# Altium integrated library TI Data Converters Digital to Analog Converter.IntLib: 1533 symbols (part 84 of 99)
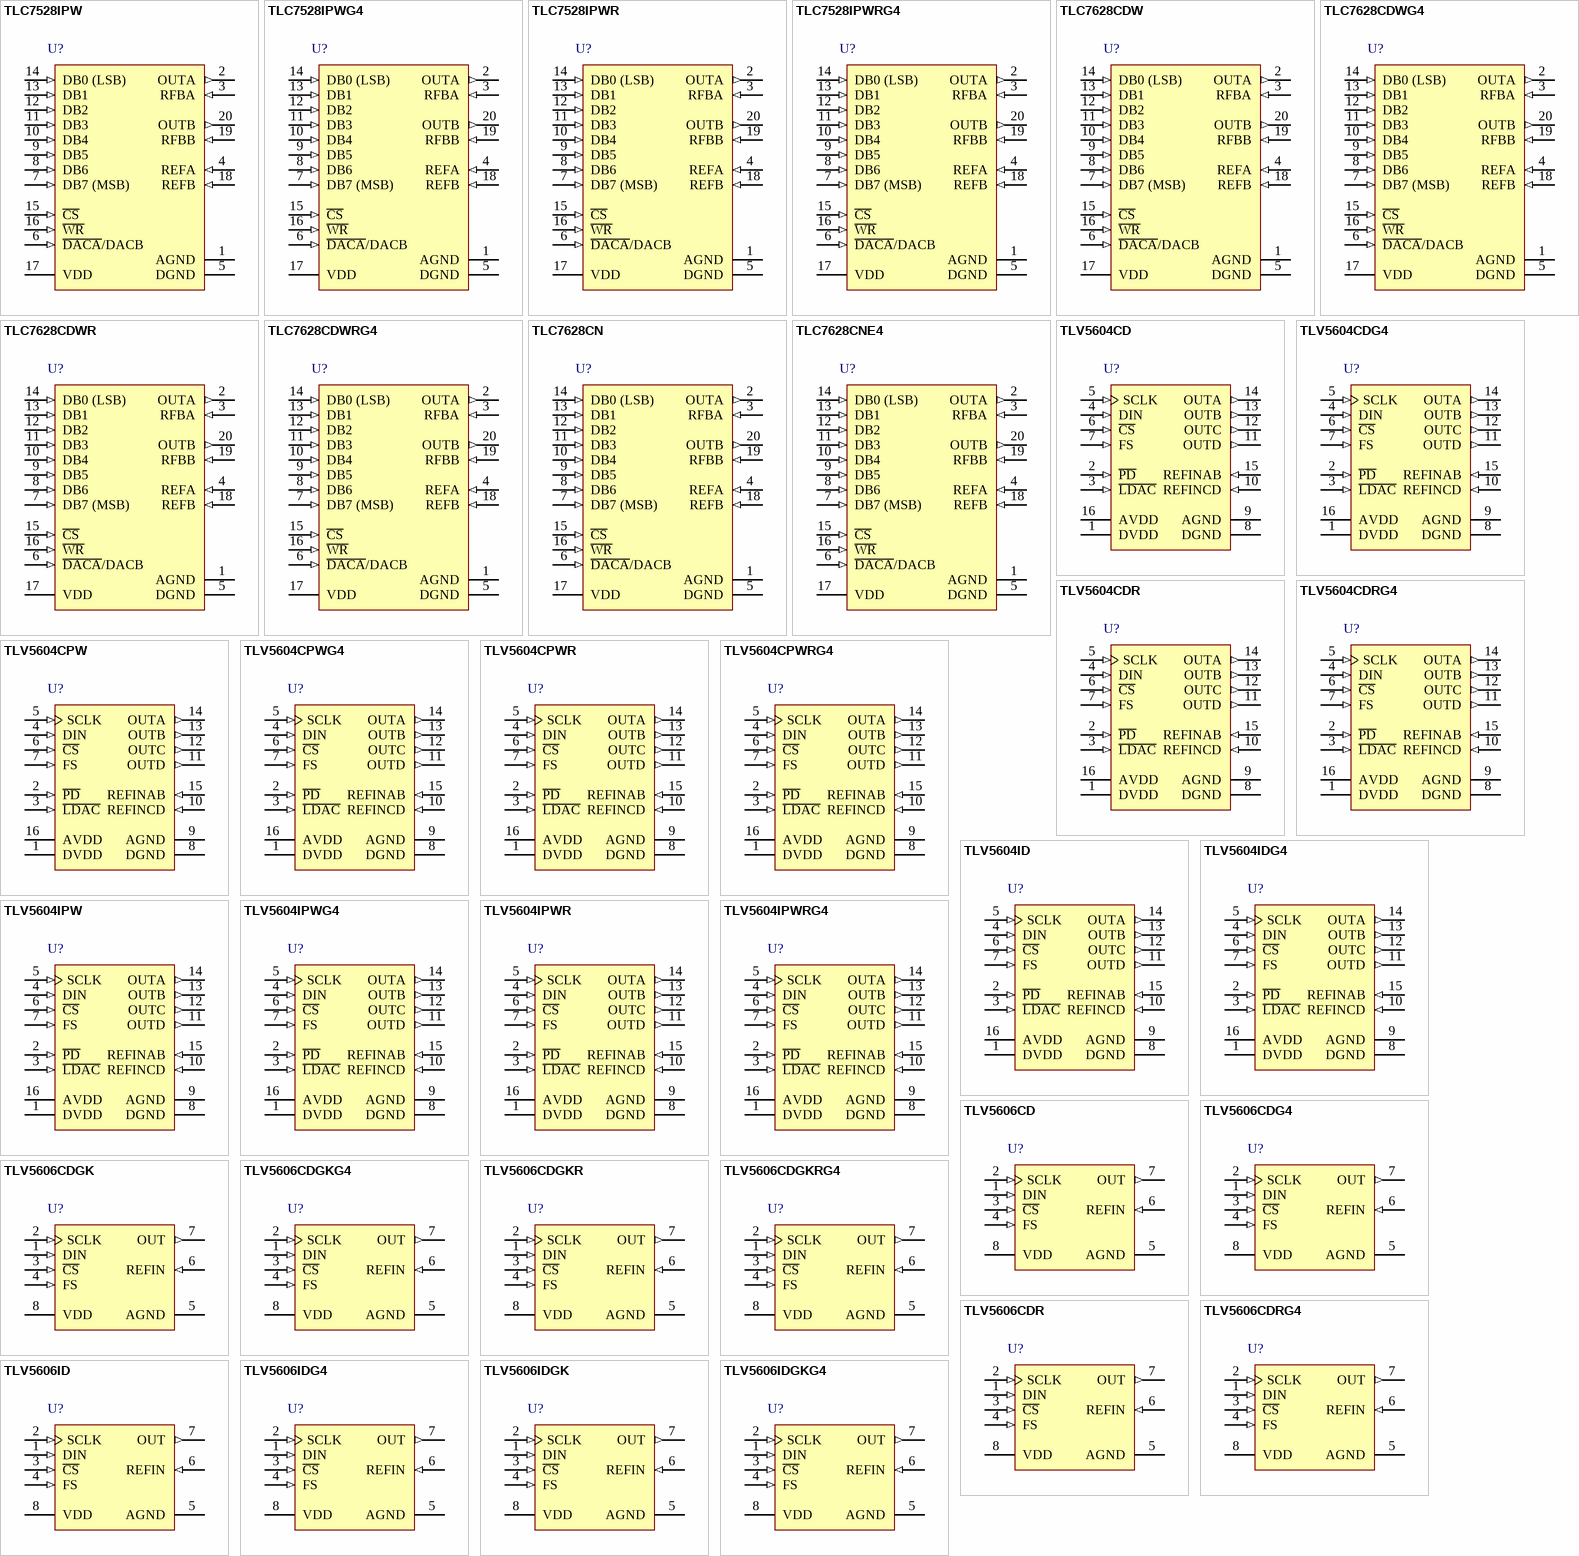
[diagram p156: symbols TLC7528IPW to TLV5606IDGKG4]

## TLV5604IPWR
designator U?
10-Bit, 3 us Quad DAC, Serial Input, Simultaneous Update, Programmable Settling Time, Power Down, -40 to 85 degC, 16-pin SOP (PW16), Green (RoHS & no Sb/Br); Manufacturer: Texas Instruments; PartNumber: TLV5604IPWR; DAC Channels: 4; DNL(Max)(+/-LSB): 1; Interface: Serial SPI; Power Consumption(Typ)(mW): 3; Resolution(Bits): 10; SFDR(dB): 70; SNR(dB): 68; SubFamily: Precision DAC (=<10MSPS); DatasheetVersion: SLAS176B; PackageVersion: 4040064-4/G, 02/2011; PackageReference: PW16; PackageDescription: 16-Pin Plastic Small Outline, Body 5 x 4.4 mm, Pitch 0.65 mm; Supplier 1: Digi-Key; Supplier Part Number 1: TLV5604IPWR-ND; Supplier 2: Mouser; Supplier Part Number 2: 595-TLV5604IPWR; Eco-Plan: Green (RoHS & no Sb/Br); INL(Max)(+/-LSB): 1; Settling Time(us): 3; Mounting Technology: Surface Mount; Code_JEDEC: MO-153; ComponentLink1Description: Manufacturer URL; ComponentLink1URL: http://www.ti.com/; ComponentLink2Description: Datasheet; ComponentLink2URL: http://www.ti.com/general/docs/lit/getliterature.tsp?genericPartNumber=TLV5604&fileType=pdf; ComponentLink3Description: Package Specification; ComponentLink3URL: http://www.ti.com/lit/ml/mpds361/mpds361.pdf
footprint TI-PW16_N (SOP, 16-Leads, Body 5x4.4mm, Pitch 0.65mm, IPC Medium Density)
footprint TI-PW16_L (SOP, 16-Leads, Body 5x4.4mm, Pitch 0.65mm, IPC High Density)
footprint TI-PW16_M (SOP, 16-Leads, Body 5x4.4mm, Pitch 0.65mm, IPC Low Density)
pins: 1 DVDD (power) "Digital supply", 2 ~{PD} (in) "Power-down pin. Powers down all DACs (overriding their individual power down settings), and all output stages. This terminal is active low.", 3 ~{LDAC} (in) "Load DAC. When the L\D\A\C\ signal is high, no DAC output updates occur when the input digital data is read into the serial interface. The DAC outputs are only updated when L\D\A\C\ is low.", 4 DIN (in) "Serial data input", 5 SCLK (in) "Serial clock input", 6 ~{CS} (in) "Chip select. This terminal is active low.", 7 FS (in) "Frame sync input. The falling edge of the frame sync pulse indicates the start of a serial data frame shifted out to the TLV5627.", 8 DGND (power) "Digital ground", 9 AGND (power) "Analog ground", 10 REFINCD (in) "Voltage reference input for DACs C and D.", 11 OUTD (out) "DAC D output", 12 OUTC (out) "DAC C output", 13 OUTB (out) "DAC B output", 14 OUTA (out) "DAC A output", 15 REFINAB (in) "Voltage reference input for DACs A and B.", 16 AVDD (power) "Analog supply"

## TLV5604IPWRG4
designator U?
10-Bit, 3 us Quad DAC, Serial Input, Simultaneous Update, Programmable Settling Time, Power Down, -40 to 85 degC, 16-pin SOP (PW16), Green (RoHS & no Sb/Br); Manufacturer: Texas Instruments; PartNumber: TLV5604IPWRG4; DAC Channels: 4; DNL(Max)(+/-LSB): 1; Interface: Serial SPI; Power Consumption(Typ)(mW): 3; Resolution(Bits): 10; SFDR(dB): 70; SNR(dB): 68; SubFamily: Precision DAC (=<10MSPS); DatasheetVersion: SLAS176B; PackageVersion: 4040064-4/G, 02/2011; PackageReference: PW16; PackageDescription: 16-Pin Plastic Small Outline, Body 5 x 4.4 mm, Pitch 0.65 mm; Supplier 1: Digi-Key; Supplier Part Number 1: TLV5604IPWRG4-ND; Supplier 2: Mouser; Supplier Part Number 2: 595-TLV5604IPWRG4; Eco-Plan: Green (RoHS & no Sb/Br); INL(Max)(+/-LSB): 1; Settling Time(us): 3; Mounting Technology: Surface Mount; Code_JEDEC: MO-153; ComponentLink1Description: Manufacturer URL; ComponentLink1URL: http://www.ti.com/; ComponentLink2Description: Datasheet; ComponentLink2URL: http://www.ti.com/general/docs/lit/getliterature.tsp?genericPartNumber=TLV5604&fileType=pdf; ComponentLink3Description: Package Specification; ComponentLink3URL: http://www.ti.com/lit/ml/mpds361/mpds361.pdf
footprint TI-PW16_N (SOP, 16-Leads, Body 5x4.4mm, Pitch 0.65mm, IPC Medium Density)
footprint TI-PW16_L (SOP, 16-Leads, Body 5x4.4mm, Pitch 0.65mm, IPC High Density)
footprint TI-PW16_M (SOP, 16-Leads, Body 5x4.4mm, Pitch 0.65mm, IPC Low Density)
pins: 1 DVDD (power) "Digital supply", 2 ~{PD} (in) "Power-down pin. Powers down all DACs (overriding their individual power down settings), and all output stages. This terminal is active low.", 3 ~{LDAC} (in) "Load DAC. When the L\D\A\C\ signal is high, no DAC output updates occur when the input digital data is read into the serial interface. The DAC outputs are only updated when L\D\A\C\ is low.", 4 DIN (in) "Serial data input", 5 SCLK (in) "Serial clock input", 6 ~{CS} (in) "Chip select. This terminal is active low.", 7 FS (in) "Frame sync input. The falling edge of the frame sync pulse indicates the start of a serial data frame shifted out to the TLV5627.", 8 DGND (power) "Digital ground", 9 AGND (power) "Analog ground", 10 REFINCD (in) "Voltage reference input for DACs C and D.", 11 OUTD (out) "DAC D output", 12 OUTC (out) "DAC C output", 13 OUTB (out) "DAC B output", 14 OUTA (out) "DAC A output", 15 REFINAB (in) "Voltage reference input for DACs A and B.", 16 AVDD (power) "Analog supply"

## TLV5606CD
designator U?
10-Bit, 3 or 9 us DAC, Serial Input, Programmable Settling Time / Power Consumption, Ultra Low Power, 0 to 70 degC, 8-pin SOIC (D8), Green (RoHS & no Sb/Br); Manufacturer: Texas Instruments; PartNumber: TLV5606CD; DAC Channels: 1; INL(Max)(+/-LSB): 1.5; Interface: Serial SPI; Power Consumption(Typ)(mW): 0.9; Resolution(Bits): 10; Settling Time(us): 3; SFDR(dB): 68; SNR(dB): 62; SubFamily: Precision DAC (=<10MSPS); DatasheetVersion: SLAS259B; PackageVersion: 4040047-3/M, 06/2011; PackageReference: D8; PackageDescription: 8-Pin Plastic Small Outline, Body 4.9 x 3.9 mm, Pitch 1.27 mm; Supplier 1: Digi-Key; Supplier Part Number 1: 296-2298-5-ND; Supplier 2: Newark; Supplier Part Number 2: 76C8883; Supplier 3: Mouser; Supplier Part Number 3: 595-TLV5606CD; DNL(Max)(+/-LSB): 1; Eco-Plan: Green (RoHS & no Sb/Br); Mounting Technology: Surface Mount; Code_JEDEC: MS-012; ComponentLink1Description: Manufacturer URL; ComponentLink1URL: http://www.ti.com/; ComponentLink2Description: Datasheet; ComponentLink2URL: http://www.ti.com/general/docs/lit/getliterature.tsp?genericPartNumber=TLV5606&fileType=pdf; ComponentLink3Description: Package Specification; ComponentLink3URL: http://www.ti.com/litv/pdf/msoi002j
footprint TI-D8_N (SOIC, 8-Leads, Body 4.9x3.9mm, Pitch 1.27mm, IPC Medium Density)
footprint TI-D8_L (SOIC, 8-Leads, Body 4.9x3.9mm, Pitch 1.27mm, IPC High Density)
footprint TI-D8_M (SOIC, 8-Leads, Body 4.9x3.9mm, Pitch 1.27mm, IPC Low Density)
pins: 1 DIN (in) "Serial digital data input", 2 SCLK (in) "Serial digital clock input", 3 ~{CS} (in) "Chip select. Digital input used to enable and disable inputs, active low.", 4 FS (in) "Frame sync. Digital input used for 4-wire serial interfaces such as the TMS320 DSP interface.", 5 AGND (power) "Analog ground", 6 REFIN (in) "Reference analog input voltage", 7 OUT (out) "DAC analog output", 8 VDD (power) "Positive power supply"

## TLV5606CDG4
designator U?
10-Bit, 3 or 9 us DAC, Serial Input, Programmable Settling Time / Power Consumption, Ultra Low Power, 0 to 70 degC, 8-pin SOIC (D8), Green (RoHS & no Sb/Br); Manufacturer: Texas Instruments; PartNumber: TLV5606CDG4; DAC Channels: 1; INL(Max)(+/-LSB): 1.5; Interface: Serial SPI; Power Consumption(Typ)(mW): 0.9; Resolution(Bits): 10; Settling Time(us): 3; SFDR(dB): 68; SNR(dB): 62; SubFamily: Precision DAC (=<10MSPS); DatasheetVersion: SLAS259B; PackageVersion: 4040047-3/M, 06/2011; PackageReference: D8; PackageDescription: 8-Pin Plastic Small Outline, Body 4.9 x 3.9 mm, Pitch 1.27 mm; Supplier 1: Digi-Key; Supplier Part Number 1: TLV5606CDG4-ND; Supplier 2: Mouser; Supplier Part Number 2: 595-TLV5606CDG4; DNL(Max)(+/-LSB): 1; Eco-Plan: Green (RoHS & no Sb/Br); Mounting Technology: Surface Mount; Code_JEDEC: MS-012; ComponentLink1Description: Manufacturer URL; ComponentLink1URL: http://www.ti.com/; ComponentLink2Description: Datasheet; ComponentLink2URL: http://www.ti.com/general/docs/lit/getliterature.tsp?genericPartNumber=TLV5606&fileType=pdf; ComponentLink3Description: Package Specification; ComponentLink3URL: http://www.ti.com/litv/pdf/msoi002j
footprint TI-D8_N (SOIC, 8-Leads, Body 4.9x3.9mm, Pitch 1.27mm, IPC Medium Density)
footprint TI-D8_L (SOIC, 8-Leads, Body 4.9x3.9mm, Pitch 1.27mm, IPC High Density)
footprint TI-D8_M (SOIC, 8-Leads, Body 4.9x3.9mm, Pitch 1.27mm, IPC Low Density)
pins: 1 DIN (in) "Serial digital data input", 2 SCLK (in) "Serial digital clock input", 3 ~{CS} (in) "Chip select. Digital input used to enable and disable inputs, active low.", 4 FS (in) "Frame sync. Digital input used for 4-wire serial interfaces such as the TMS320 DSP interface.", 5 AGND (power) "Analog ground", 6 REFIN (in) "Reference analog input voltage", 7 OUT (out) "DAC analog output", 8 VDD (power) "Positive power supply"

## TLV5606CDGK
designator U?
10-Bit, 3 or 9 us DAC, Serial Input, Programmable Settling Time / Power Consumption, Ultra Low Power, 0 to 70 degC, 8-pin SOP (DGK8), Green (RoHS & no Sb/Br); Manufacturer: Texas Instruments; PartNumber: TLV5606CDGK; DAC Channels: 1; INL(Max)(+/-LSB): 1.5; Interface: Serial SPI; Power Consumption(Typ)(mW): 0.9; Resolution(Bits): 10; Settling Time(us): 3; SFDR(dB): 68; SNR(dB): 62; SubFamily: Precision DAC (=<10MSPS); DatasheetVersion: SLAS259B; PackageVersion: 4073329/E, 05/2006; PackageReference: DGK8; PackageDescription: 8-Pin Thin Small Outline, Body 3 x 3 mm, Pitch 0.65 mm; Supplier 1: Digi-Key; Supplier Part Number 1: TLV5606CDGK-ND; Supplier 2: Newark; Supplier Part Number 2: 76C8884; Supplier 3: Mouser; Supplier Part Number 3: 595-TLV5606CDGK; DNL(Max)(+/-LSB): 1; Eco-Plan: Green (RoHS & no Sb/Br); Mounting Technology: Surface Mount; Code_JEDEC: MO-187; ComponentLink1Description: Manufacturer URL; ComponentLink1URL: http://www.ti.com/; ComponentLink2Description: Datasheet; ComponentLink2URL: http://www.ti.com/general/docs/lit/getliterature.tsp?genericPartNumber=TLV5606&fileType=pdf; ComponentLink3Description: Package Specification; ComponentLink3URL: http://www.ti.com/litv/pdf/mpds028d
footprint TI-DGK8_N (SOP, 8-Leads, Body 3x3mm, Pitch 0.65mm, IPC Medium Density)
footprint TI-DGK8_L (SOP, 8-Leads, Body 3x3mm, Pitch 0.65mm, IPC High Density)
footprint TI-DGK8_M (SOP, 8-Leads, Body 3x3mm, Pitch 0.65mm, IPC Low Density)
pins: 1 DIN (in) "Serial digital data input", 2 SCLK (in) "Serial digital clock input", 3 ~{CS} (in) "Chip select. Digital input used to enable and disable inputs, active low.", 4 FS (in) "Frame sync. Digital input used for 4-wire serial interfaces such as the TMS320 DSP interface.", 5 AGND (power) "Analog ground", 6 REFIN (in) "Reference analog input voltage", 7 OUT (out) "DAC analog output", 8 VDD (power) "Positive power supply"

## TLV5606CDGKG4
designator U?
10-Bit, 3 or 9 us DAC, Serial Input, Programmable Settling Time / Power Consumption, Ultra Low Power, 0 to 70 degC, 8-pin SOP (DGK8), Green (RoHS & no Sb/Br); Manufacturer: Texas Instruments; PartNumber: TLV5606CDGKG4; DAC Channels: 1; INL(Max)(+/-LSB): 1.5; Interface: Serial SPI; Power Consumption(Typ)(mW): 0.9; Resolution(Bits): 10; Settling Time(us): 3; SFDR(dB): 68; SNR(dB): 62; SubFamily: Precision DAC (=<10MSPS); DatasheetVersion: SLAS259B; PackageVersion: 4073329/E, 05/2006; PackageReference: DGK8; PackageDescription: 8-Pin Thin Small Outline, Body 3 x 3 mm, Pitch 0.65 mm; Supplier 1: Digi-Key; Supplier Part Number 1: TLV5606CDGKG4-ND; Supplier 2: Mouser; Supplier Part Number 2: 595-TLV5606CDGKG4; DNL(Max)(+/-LSB): 1; Eco-Plan: Green (RoHS & no Sb/Br); Mounting Technology: Surface Mount; Code_JEDEC: MO-187; ComponentLink1Description: Manufacturer URL; ComponentLink1URL: http://www.ti.com/; ComponentLink2Description: Datasheet; ComponentLink2URL: http://www.ti.com/general/docs/lit/getliterature.tsp?genericPartNumber=TLV5606&fileType=pdf; ComponentLink3Description: Package Specification; ComponentLink3URL: http://www.ti.com/litv/pdf/mpds028d
footprint TI-DGK8_N (SOP, 8-Leads, Body 3x3mm, Pitch 0.65mm, IPC Medium Density)
footprint TI-DGK8_L (SOP, 8-Leads, Body 3x3mm, Pitch 0.65mm, IPC High Density)
footprint TI-DGK8_M (SOP, 8-Leads, Body 3x3mm, Pitch 0.65mm, IPC Low Density)
pins: 1 DIN (in) "Serial digital data input", 2 SCLK (in) "Serial digital clock input", 3 ~{CS} (in) "Chip select. Digital input used to enable and disable inputs, active low.", 4 FS (in) "Frame sync. Digital input used for 4-wire serial interfaces such as the TMS320 DSP interface.", 5 AGND (power) "Analog ground", 6 REFIN (in) "Reference analog input voltage", 7 OUT (out) "DAC analog output", 8 VDD (power) "Positive power supply"

## TLV5606CDGKR
designator U?
10-Bit, 3 or 9 us DAC, Serial Input, Programmable Settling Time / Power Consumption, Ultra Low Power, 0 to 70 degC, 8-pin SOP (DGK8), Green (RoHS & no Sb/Br); Manufacturer: Texas Instruments; PartNumber: TLV5606CDGKR; DAC Channels: 1; INL(Max)(+/-LSB): 1.5; Interface: Serial SPI; Power Consumption(Typ)(mW): 0.9; Resolution(Bits): 10; Settling Time(us): 3; SFDR(dB): 68; SNR(dB): 62; SubFamily: Precision DAC (=<10MSPS); DatasheetVersion: SLAS259B; PackageVersion: 4073329/E, 05/2006; PackageReference: DGK8; PackageDescription: 8-Pin Thin Small Outline, Body 3 x 3 mm, Pitch 0.65 mm; Supplier 1: Digi-Key; Supplier Part Number 1: TLV5606CDGKR-ND; Supplier 2: Newark; Supplier Part Number 2: 76C8885; Supplier 3: Mouser; Supplier Part Number 3: 595-TLV5606CDGKR; DNL(Max)(+/-LSB): 1; Eco-Plan: Green (RoHS & no Sb/Br); Mounting Technology: Surface Mount; Code_JEDEC: MO-187; ComponentLink1Description: Manufacturer URL; ComponentLink1URL: http://www.ti.com/; ComponentLink2Description: Datasheet; ComponentLink2URL: http://www.ti.com/general/docs/lit/getliterature.tsp?genericPartNumber=TLV5606&fileType=pdf; ComponentLink3Description: Package Specification; ComponentLink3URL: http://www.ti.com/litv/pdf/mpds028d
footprint TI-DGK8_N (SOP, 8-Leads, Body 3x3mm, Pitch 0.65mm, IPC Medium Density)
footprint TI-DGK8_L (SOP, 8-Leads, Body 3x3mm, Pitch 0.65mm, IPC High Density)
footprint TI-DGK8_M (SOP, 8-Leads, Body 3x3mm, Pitch 0.65mm, IPC Low Density)
pins: 1 DIN (in) "Serial digital data input", 2 SCLK (in) "Serial digital clock input", 3 ~{CS} (in) "Chip select. Digital input used to enable and disable inputs, active low.", 4 FS (in) "Frame sync. Digital input used for 4-wire serial interfaces such as the TMS320 DSP interface.", 5 AGND (power) "Analog ground", 6 REFIN (in) "Reference analog input voltage", 7 OUT (out) "DAC analog output", 8 VDD (power) "Positive power supply"

## TLV5606CDGKRG4
designator U?
10-Bit, 3 or 9 us DAC, Serial Input, Programmable Settling Time / Power Consumption, Ultra Low Power, 0 to 70 degC, 8-pin SOP (DGK8), Green (RoHS & no Sb/Br); Manufacturer: Texas Instruments; PartNumber: TLV5606CDGKRG4; DAC Channels: 1; INL(Max)(+/-LSB): 1.5; Interface: Serial SPI; Power Consumption(Typ)(mW): 0.9; Resolution(Bits): 10; Settling Time(us): 3; SFDR(dB): 68; SNR(dB): 62; SubFamily: Precision DAC (=<10MSPS); DatasheetVersion: SLAS259B; PackageVersion: 4073329/E, 05/2006; PackageReference: DGK8; PackageDescription: 8-Pin Thin Small Outline, Body 3 x 3 mm, Pitch 0.65 mm; Supplier 1: Digi-Key; Supplier Part Number 1: TLV5606CDGKRG4-ND; Supplier 2: Mouser; Supplier Part Number 2: 595-TLV5606CDGKRG4; DNL(Max)(+/-LSB): 1; Eco-Plan: Green (RoHS & no Sb/Br); Mounting Technology: Surface Mount; Code_JEDEC: MO-187; ComponentLink1Description: Manufacturer URL; ComponentLink1URL: http://www.ti.com/; ComponentLink2Description: Datasheet; ComponentLink2URL: http://www.ti.com/general/docs/lit/getliterature.tsp?genericPartNumber=TLV5606&fileType=pdf; ComponentLink3Description: Package Specification; ComponentLink3URL: http://www.ti.com/litv/pdf/mpds028d
footprint TI-DGK8_N (SOP, 8-Leads, Body 3x3mm, Pitch 0.65mm, IPC Medium Density)
footprint TI-DGK8_L (SOP, 8-Leads, Body 3x3mm, Pitch 0.65mm, IPC High Density)
footprint TI-DGK8_M (SOP, 8-Leads, Body 3x3mm, Pitch 0.65mm, IPC Low Density)
pins: 1 DIN (in) "Serial digital data input", 2 SCLK (in) "Serial digital clock input", 3 ~{CS} (in) "Chip select. Digital input used to enable and disable inputs, active low.", 4 FS (in) "Frame sync. Digital input used for 4-wire serial interfaces such as the TMS320 DSP interface.", 5 AGND (power) "Analog ground", 6 REFIN (in) "Reference analog input voltage", 7 OUT (out) "DAC analog output", 8 VDD (power) "Positive power supply"

## TLV5606CDR
designator U?
10-Bit, 3 or 9 us DAC, Serial Input, Programmable Settling Time / Power Consumption, Ultra Low Power, 0 to 70 degC, 8-pin SOIC (D8), Green (RoHS & no Sb/Br); Manufacturer: Texas Instruments; PartNumber: TLV5606CDR; DAC Channels: 1; INL(Max)(+/-LSB): 1.5; Interface: Serial SPI; Power Consumption(Typ)(mW): 0.9; Resolution(Bits): 10; Settling Time(us): 3; SFDR(dB): 68; SNR(dB): 62; SubFamily: Precision DAC (=<10MSPS); DatasheetVersion: SLAS259B; PackageVersion: 4040047-3/M, 06/2011; PackageReference: D8; PackageDescription: 8-Pin Plastic Small Outline, Body 4.9 x 3.9 mm, Pitch 1.27 mm; Supplier 1: Digi-Key; Supplier Part Number 1: TLV5606CDR-ND; Supplier 2: Mouser; Supplier Part Number 2: 595-TLV5606CDR; DNL(Max)(+/-LSB): 1; Eco-Plan: Green (RoHS & no Sb/Br); Mounting Technology: Surface Mount; Code_JEDEC: MS-012; ComponentLink1Description: Manufacturer URL; ComponentLink1URL: http://www.ti.com/; ComponentLink2Description: Datasheet; ComponentLink2URL: http://www.ti.com/general/docs/lit/getliterature.tsp?genericPartNumber=TLV5606&fileType=pdf; ComponentLink3Description: Package Specification; ComponentLink3URL: http://www.ti.com/litv/pdf/msoi002j
footprint TI-D8_N (SOIC, 8-Leads, Body 4.9x3.9mm, Pitch 1.27mm, IPC Medium Density)
footprint TI-D8_L (SOIC, 8-Leads, Body 4.9x3.9mm, Pitch 1.27mm, IPC High Density)
footprint TI-D8_M (SOIC, 8-Leads, Body 4.9x3.9mm, Pitch 1.27mm, IPC Low Density)
pins: 1 DIN (in) "Serial digital data input", 2 SCLK (in) "Serial digital clock input", 3 ~{CS} (in) "Chip select. Digital input used to enable and disable inputs, active low.", 4 FS (in) "Frame sync. Digital input used for 4-wire serial interfaces such as the TMS320 DSP interface.", 5 AGND (power) "Analog ground", 6 REFIN (in) "Reference analog input voltage", 7 OUT (out) "DAC analog output", 8 VDD (power) "Positive power supply"

## TLV5606CDRG4
designator U?
10-Bit, 3 or 9 us DAC, Serial Input, Programmable Settling Time / Power Consumption, Ultra Low Power, 0 to 70 degC, 8-pin SOIC (D8), Green (RoHS & no Sb/Br); Manufacturer: Texas Instruments; PartNumber: TLV5606CDRG4; DAC Channels: 1; INL(Max)(+/-LSB): 1.5; Interface: Serial SPI; Power Consumption(Typ)(mW): 0.9; Resolution(Bits): 10; Settling Time(us): 3; SFDR(dB): 68; SNR(dB): 62; SubFamily: Precision DAC (=<10MSPS); DatasheetVersion: SLAS259B; PackageVersion: 4040047-3/M, 06/2011; PackageReference: D8; PackageDescription: 8-Pin Plastic Small Outline, Body 4.9 x 3.9 mm, Pitch 1.27 mm; Supplier 1: Digi-Key; Supplier Part Number 1: TLV5606CDRG4-ND; Supplier 2: Mouser; Supplier Part Number 2: 595-TLV5606CDRG4; DNL(Max)(+/-LSB): 1; Eco-Plan: Green (RoHS & no Sb/Br); Mounting Technology: Surface Mount; Code_JEDEC: MS-012; ComponentLink1Description: Manufacturer URL; ComponentLink1URL: http://www.ti.com/; ComponentLink2Description: Datasheet; ComponentLink2URL: http://www.ti.com/general/docs/lit/getliterature.tsp?genericPartNumber=TLV5606&fileType=pdf; ComponentLink3Description: Package Specification; ComponentLink3URL: http://www.ti.com/litv/pdf/msoi002j
footprint TI-D8_N (SOIC, 8-Leads, Body 4.9x3.9mm, Pitch 1.27mm, IPC Medium Density)
footprint TI-D8_L (SOIC, 8-Leads, Body 4.9x3.9mm, Pitch 1.27mm, IPC High Density)
footprint TI-D8_M (SOIC, 8-Leads, Body 4.9x3.9mm, Pitch 1.27mm, IPC Low Density)
pins: 1 DIN (in) "Serial digital data input", 2 SCLK (in) "Serial digital clock input", 3 ~{CS} (in) "Chip select. Digital input used to enable and disable inputs, active low.", 4 FS (in) "Frame sync. Digital input used for 4-wire serial interfaces such as the TMS320 DSP interface.", 5 AGND (power) "Analog ground", 6 REFIN (in) "Reference analog input voltage", 7 OUT (out) "DAC analog output", 8 VDD (power) "Positive power supply"

## TLV5606ID
designator U?
10-Bit, 3 or 9 us DAC, Serial Input, Programmable Settling Time / Power Consumption, Ultra Low Power, -40 to 85 degC, 8-pin SOIC (D8), Green (RoHS & no Sb/Br); Manufacturer: Texas Instruments; PartNumber: TLV5606ID; DAC Channels: 1; INL(Max)(+/-LSB): 1.5; Interface: Serial SPI; Power Consumption(Typ)(mW): 0.9; Resolution(Bits): 10; Settling Time(us): 3; SFDR(dB): 68; SNR(dB): 62; SubFamily: Precision DAC (=<10MSPS); DatasheetVersion: SLAS259B; PackageVersion: 4040047-3/M, 06/2011; PackageReference: D8; PackageDescription: 8-Pin Plastic Small Outline, Body 4.9 x 3.9 mm, Pitch 1.27 mm; Supplier 1: Digi-Key; Supplier Part Number 1: 296-3034-5-ND; Supplier 2: Farnell; Supplier Part Number 2: 8455589; Supplier 3: Newark; Supplier Part Number 3: 76C8887; Supplier 4: Mouser; Supplier Part Number 4: 595-TLV5606ID; DNL(Max)(+/-LSB): 1; Eco-Plan: Green (RoHS & no Sb/Br); Mounting Technology: Surface Mount; Code_JEDEC: MS-012; ComponentLink1Description: Manufacturer URL; ComponentLink1URL: http://www.ti.com/; ComponentLink2Description: Datasheet; ComponentLink2URL: http://www.ti.com/general/docs/lit/getliterature.tsp?genericPartNumber=TLV5606&fileType=pdf; ComponentLink3Description: Package Specification; ComponentLink3URL: http://www.ti.com/litv/pdf/msoi002j
footprint TI-D8_N (SOIC, 8-Leads, Body 4.9x3.9mm, Pitch 1.27mm, IPC Medium Density)
footprint TI-D8_L (SOIC, 8-Leads, Body 4.9x3.9mm, Pitch 1.27mm, IPC High Density)
footprint TI-D8_M (SOIC, 8-Leads, Body 4.9x3.9mm, Pitch 1.27mm, IPC Low Density)
pins: 1 DIN (in) "Serial digital data input", 2 SCLK (in) "Serial digital clock input", 3 ~{CS} (in) "Chip select. Digital input used to enable and disable inputs, active low.", 4 FS (in) "Frame sync. Digital input used for 4-wire serial interfaces such as the TMS320 DSP interface.", 5 AGND (power) "Analog ground", 6 REFIN (in) "Reference analog input voltage", 7 OUT (out) "DAC analog output", 8 VDD (power) "Positive power supply"

## TLV5606IDG4
designator U?
10-Bit, 3 or 9 us DAC, Serial Input, Programmable Settling Time / Power Consumption, Ultra Low Power, -40 to 85 degC, 8-pin SOIC (D8), Green (RoHS & no Sb/Br); Manufacturer: Texas Instruments; PartNumber: TLV5606IDG4; DAC Channels: 1; INL(Max)(+/-LSB): 1.5; Interface: Serial SPI; Power Consumption(Typ)(mW): 0.9; Resolution(Bits): 10; Settling Time(us): 3; SFDR(dB): 68; SNR(dB): 62; SubFamily: Precision DAC (=<10MSPS); DatasheetVersion: SLAS259B; PackageVersion: 4040047-3/M, 06/2011; PackageReference: D8; PackageDescription: 8-Pin Plastic Small Outline, Body 4.9 x 3.9 mm, Pitch 1.27 mm; Supplier 1: Digi-Key; Supplier Part Number 1: TLV5606IDG4-ND; Supplier 2: Mouser; Supplier Part Number 2: 595-TLV5606IDG4; DNL(Max)(+/-LSB): 1; Eco-Plan: Green (RoHS & no Sb/Br); Mounting Technology: Surface Mount; Code_JEDEC: MS-012; ComponentLink1Description: Manufacturer URL; ComponentLink1URL: http://www.ti.com/; ComponentLink2Description: Datasheet; ComponentLink2URL: http://www.ti.com/general/docs/lit/getliterature.tsp?genericPartNumber=TLV5606&fileType=pdf; ComponentLink3Description: Package Specification; ComponentLink3URL: http://www.ti.com/litv/pdf/msoi002j
footprint TI-D8_N (SOIC, 8-Leads, Body 4.9x3.9mm, Pitch 1.27mm, IPC Medium Density)
footprint TI-D8_L (SOIC, 8-Leads, Body 4.9x3.9mm, Pitch 1.27mm, IPC High Density)
footprint TI-D8_M (SOIC, 8-Leads, Body 4.9x3.9mm, Pitch 1.27mm, IPC Low Density)
pins: 1 DIN (in) "Serial digital data input", 2 SCLK (in) "Serial digital clock input", 3 ~{CS} (in) "Chip select. Digital input used to enable and disable inputs, active low.", 4 FS (in) "Frame sync. Digital input used for 4-wire serial interfaces such as the TMS320 DSP interface.", 5 AGND (power) "Analog ground", 6 REFIN (in) "Reference analog input voltage", 7 OUT (out) "DAC analog output", 8 VDD (power) "Positive power supply"

## TLV5606IDGK
designator U?
10-Bit, 3 or 9 us DAC, Serial Input, Programmable Settling Time / Power Consumption, Ultra Low Power, -40 to 85 degC, 8-pin SOP (DGK8), Green (RoHS & no Sb/Br); Manufacturer: Texas Instruments; PartNumber: TLV5606IDGK; DAC Channels: 1; INL(Max)(+/-LSB): 1.5; Interface: Serial SPI; Power Consumption(Typ)(mW): 0.9; Resolution(Bits): 10; Settling Time(us): 3; SFDR(dB): 68; SNR(dB): 62; SubFamily: Precision DAC (=<10MSPS); DatasheetVersion: SLAS259B; PackageVersion: 4073329/E, 05/2006; PackageReference: DGK8; PackageDescription: 8-Pin Thin Small Outline, Body 3 x 3 mm, Pitch 0.65 mm; Supplier 1: Digi-Key; Supplier Part Number 1: 296-3035-5-ND; Supplier 2: Newark; Supplier Part Number 2: 76C8888; Supplier 3: Mouser; Supplier Part Number 3: 595-TLV5606IDGK; DNL(Max)(+/-LSB): 1; Eco-Plan: Green (RoHS & no Sb/Br); Mounting Technology: Surface Mount; Code_JEDEC: MO-187; ComponentLink1Description: Manufacturer URL; ComponentLink1URL: http://www.ti.com/; ComponentLink2Description: Datasheet; ComponentLink2URL: http://www.ti.com/general/docs/lit/getliterature.tsp?genericPartNumber=TLV5606&fileType=pdf; ComponentLink3Description: Package Specification; ComponentLink3URL: http://www.ti.com/litv/pdf/mpds028d
footprint TI-DGK8_N (SOP, 8-Leads, Body 3x3mm, Pitch 0.65mm, IPC Medium Density)
footprint TI-DGK8_L (SOP, 8-Leads, Body 3x3mm, Pitch 0.65mm, IPC High Density)
footprint TI-DGK8_M (SOP, 8-Leads, Body 3x3mm, Pitch 0.65mm, IPC Low Density)
pins: 1 DIN (in) "Serial digital data input", 2 SCLK (in) "Serial digital clock input", 3 ~{CS} (in) "Chip select. Digital input used to enable and disable inputs, active low.", 4 FS (in) "Frame sync. Digital input used for 4-wire serial interfaces such as the TMS320 DSP interface.", 5 AGND (power) "Analog ground", 6 REFIN (in) "Reference analog input voltage", 7 OUT (out) "DAC analog output", 8 VDD (power) "Positive power supply"

## TLV5606IDGKG4
designator U?
10-Bit, 3 or 9 us DAC, Serial Input, Programmable Settling Time / Power Consumption, Ultra Low Power, -40 to 85 degC, 8-pin SOP (DGK8), Green (RoHS & no Sb/Br); Manufacturer: Texas Instruments; PartNumber: TLV5606IDGKG4; DAC Channels: 1; INL(Max)(+/-LSB): 1.5; Interface: Serial SPI; Power Consumption(Typ)(mW): 0.9; Resolution(Bits): 10; Settling Time(us): 3; SFDR(dB): 68; SNR(dB): 62; SubFamily: Precision DAC (=<10MSPS); DatasheetVersion: SLAS259B; PackageVersion: 4073329/E, 05/2006; PackageReference: DGK8; PackageDescription: 8-Pin Thin Small Outline, Body 3 x 3 mm, Pitch 0.65 mm; Supplier 1: Digi-Key; Supplier Part Number 1: TLV5606IDGKG4-ND; Supplier 2: Mouser; Supplier Part Number 2: 595-TLV5606IDGKG4; DNL(Max)(+/-LSB): 1; Eco-Plan: Green (RoHS & no Sb/Br); Mounting Technology: Surface Mount; Code_JEDEC: MO-187; ComponentLink1Description: Manufacturer URL; ComponentLink1URL: http://www.ti.com/; ComponentLink2Description: Datasheet; ComponentLink2URL: http://www.ti.com/general/docs/lit/getliterature.tsp?genericPartNumber=TLV5606&fileType=pdf; ComponentLink3Description: Package Specification; ComponentLink3URL: http://www.ti.com/litv/pdf/mpds028d
footprint TI-DGK8_N (SOP, 8-Leads, Body 3x3mm, Pitch 0.65mm, IPC Medium Density)
footprint TI-DGK8_L (SOP, 8-Leads, Body 3x3mm, Pitch 0.65mm, IPC High Density)
footprint TI-DGK8_M (SOP, 8-Leads, Body 3x3mm, Pitch 0.65mm, IPC Low Density)
pins: 1 DIN (in) "Serial digital data input", 2 SCLK (in) "Serial digital clock input", 3 ~{CS} (in) "Chip select. Digital input used to enable and disable inputs, active low.", 4 FS (in) "Frame sync. Digital input used for 4-wire serial interfaces such as the TMS320 DSP interface.", 5 AGND (power) "Analog ground", 6 REFIN (in) "Reference analog input voltage", 7 OUT (out) "DAC analog output", 8 VDD (power) "Positive power supply"

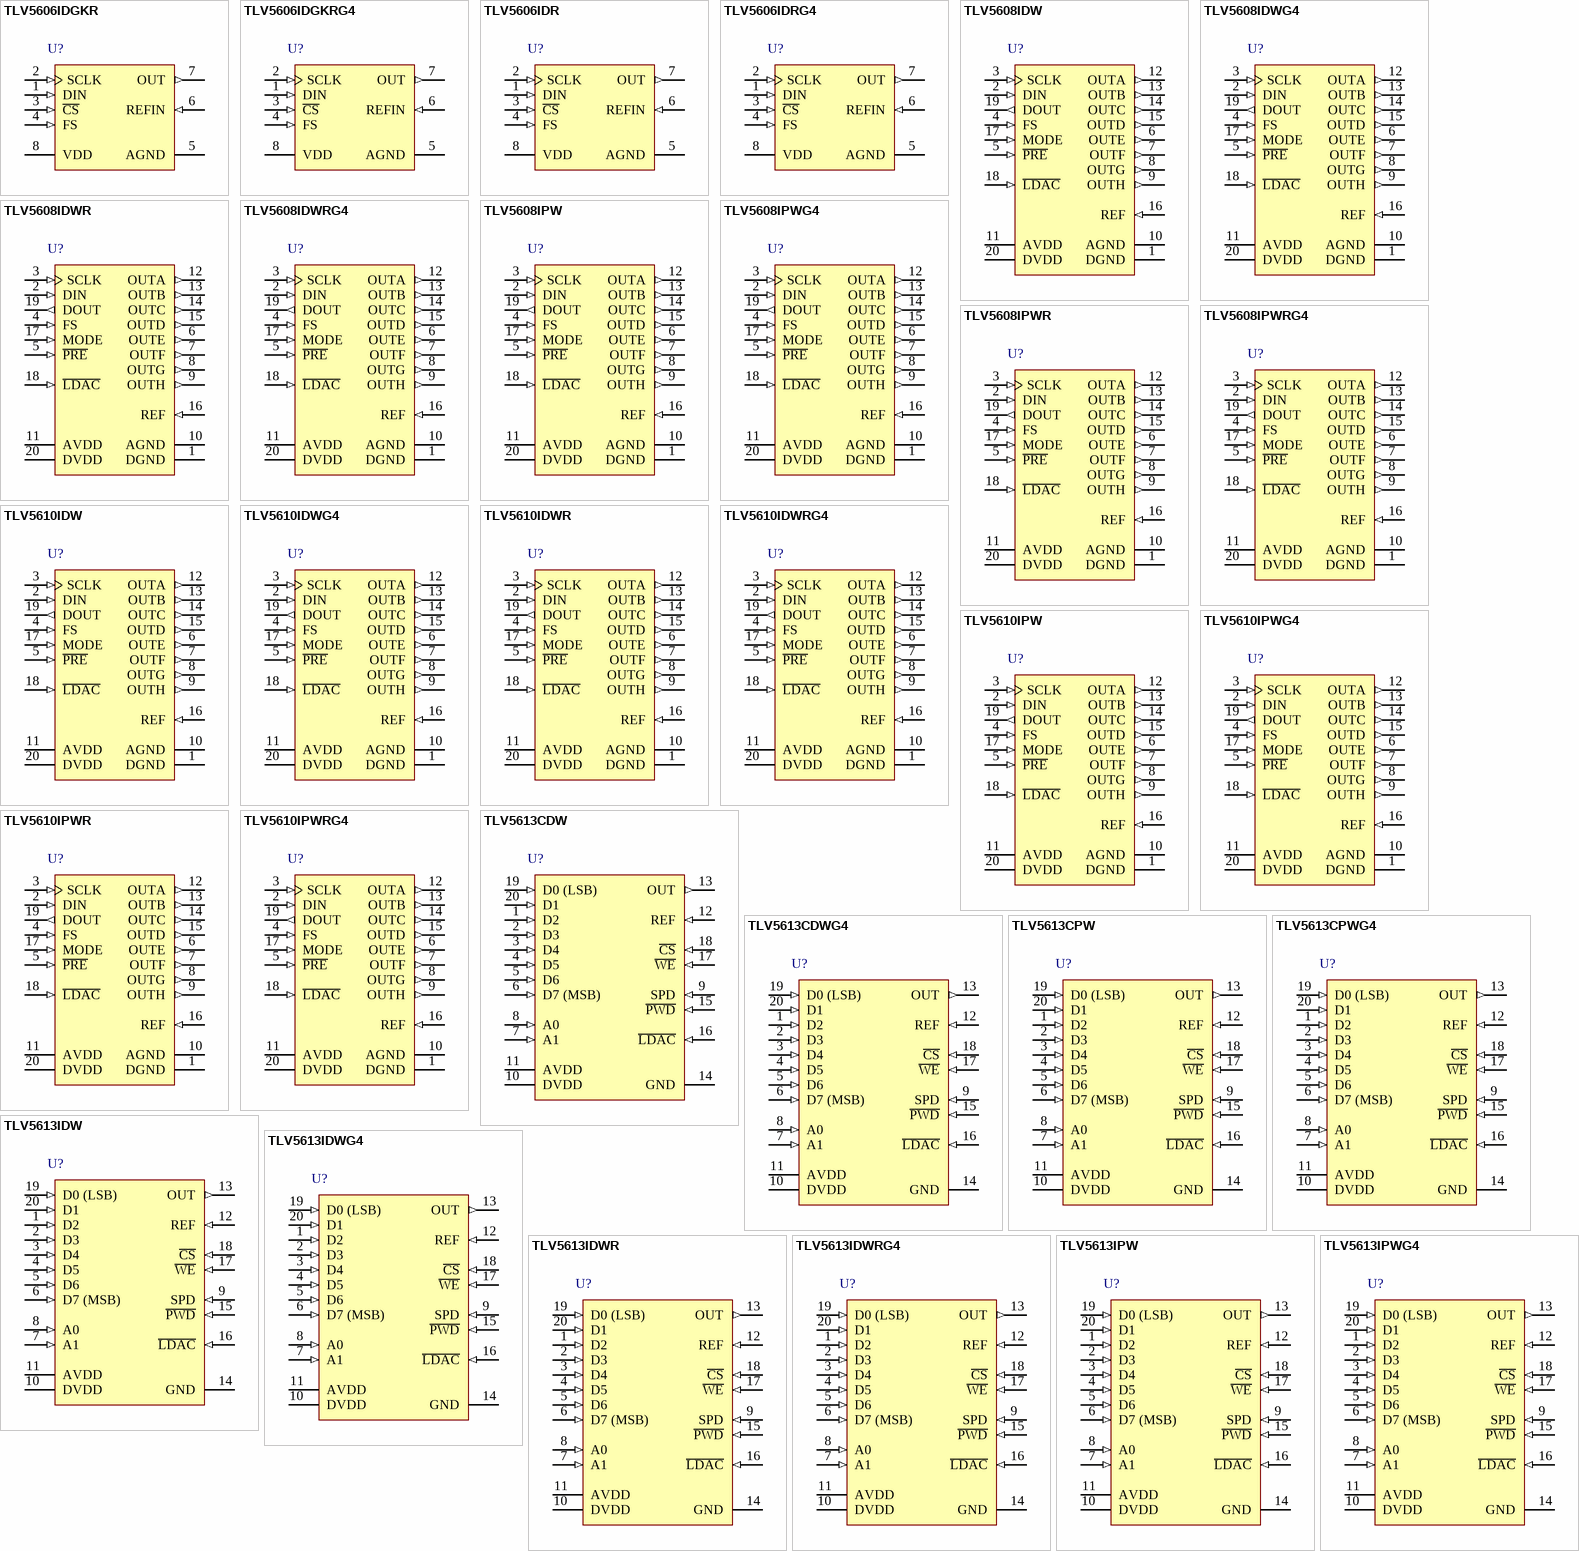
[diagram p63: symbols TLV5606IDGKR to TLV5613IPWG4]

## TLV5606IDGKR
designator U?
10-Bit, 3 or 9 us DAC, Serial Input, Programmable Settling Time / Power Consumption, Ultra Low Power, -40 to 85 degC, 8-pin SOP (DGK8), Green (RoHS & no Sb/Br); Manufacturer: Texas Instruments; PartNumber: TLV5606IDGKR; DAC Channels: 1; INL(Max)(+/-LSB): 1.5; Interface: Serial SPI; Power Consumption(Typ)(mW): 0.9; Resolution(Bits): 10; Settling Time(us): 3; SFDR(dB): 68; SNR(dB): 62; SubFamily: Precision DAC (=<10MSPS); DatasheetVersion: SLAS259B; PackageVersion: 4073329/E, 05/2006; PackageReference: DGK8; PackageDescription: 8-Pin Thin Small Outline, Body 3 x 3 mm, Pitch 0.65 mm; Supplier 1: Digi-Key; Supplier Part Number 1: TLV5606IDGKR-ND; Supplier 2: Newark; Supplier Part Number 2: 76C8889; Supplier 3: Mouser; Supplier Part Number 3: 595-TLV5606IDGKR; DNL(Max)(+/-LSB): 1; Eco-Plan: Green (RoHS & no Sb/Br); Mounting Technology: Surface Mount; Code_JEDEC: MO-187; ComponentLink1Description: Manufacturer URL; ComponentLink1URL: http://www.ti.com/; ComponentLink2Description: Datasheet; ComponentLink2URL: http://www.ti.com/general/docs/lit/getliterature.tsp?genericPartNumber=TLV5606&fileType=pdf; ComponentLink3Description: Package Specification; ComponentLink3URL: http://www.ti.com/litv/pdf/mpds028d
footprint TI-DGK8_N (SOP, 8-Leads, Body 3x3mm, Pitch 0.65mm, IPC Medium Density)
footprint TI-DGK8_L (SOP, 8-Leads, Body 3x3mm, Pitch 0.65mm, IPC High Density)
footprint TI-DGK8_M (SOP, 8-Leads, Body 3x3mm, Pitch 0.65mm, IPC Low Density)
pins: 1 DIN (in) "Serial digital data input", 2 SCLK (in) "Serial digital clock input", 3 ~{CS} (in) "Chip select. Digital input used to enable and disable inputs, active low.", 4 FS (in) "Frame sync. Digital input used for 4-wire serial interfaces such as the TMS320 DSP interface.", 5 AGND (power) "Analog ground", 6 REFIN (in) "Reference analog input voltage", 7 OUT (out) "DAC analog output", 8 VDD (power) "Positive power supply"

## TLV5606IDGKRG4
designator U?
10-Bit, 3 or 9 us DAC, Serial Input, Programmable Settling Time / Power Consumption, Ultra Low Power, -40 to 85 degC, 8-pin SOP (DGK8), Green (RoHS & no Sb/Br); Manufacturer: Texas Instruments; PartNumber: TLV5606IDGKRG4; DAC Channels: 1; INL(Max)(+/-LSB): 1.5; Interface: Serial SPI; Power Consumption(Typ)(mW): 0.9; Resolution(Bits): 10; Settling Time(us): 3; SFDR(dB): 68; SNR(dB): 62; SubFamily: Precision DAC (=<10MSPS); DatasheetVersion: SLAS259B; PackageVersion: 4073329/E, 05/2006; PackageReference: DGK8; PackageDescription: 8-Pin Thin Small Outline, Body 3 x 3 mm, Pitch 0.65 mm; Supplier 1: Digi-Key; Supplier Part Number 1: TLV5606IDGKRG4-ND; Supplier 2: Mouser; Supplier Part Number 2: 595-TLV5606IDGKRG4; DNL(Max)(+/-LSB): 1; Eco-Plan: Green (RoHS & no Sb/Br); Mounting Technology: Surface Mount; Code_JEDEC: MO-187; ComponentLink1Description: Manufacturer URL; ComponentLink1URL: http://www.ti.com/; ComponentLink2Description: Datasheet; ComponentLink2URL: http://www.ti.com/general/docs/lit/getliterature.tsp?genericPartNumber=TLV5606&fileType=pdf; ComponentLink3Description: Package Specification; ComponentLink3URL: http://www.ti.com/litv/pdf/mpds028d
footprint TI-DGK8_N (SOP, 8-Leads, Body 3x3mm, Pitch 0.65mm, IPC Medium Density)
footprint TI-DGK8_L (SOP, 8-Leads, Body 3x3mm, Pitch 0.65mm, IPC High Density)
footprint TI-DGK8_M (SOP, 8-Leads, Body 3x3mm, Pitch 0.65mm, IPC Low Density)
pins: 1 DIN (in) "Serial digital data input", 2 SCLK (in) "Serial digital clock input", 3 ~{CS} (in) "Chip select. Digital input used to enable and disable inputs, active low.", 4 FS (in) "Frame sync. Digital input used for 4-wire serial interfaces such as the TMS320 DSP interface.", 5 AGND (power) "Analog ground", 6 REFIN (in) "Reference analog input voltage", 7 OUT (out) "DAC analog output", 8 VDD (power) "Positive power supply"

## TLV5606IDR
designator U?
10-Bit, 3 or 9 us DAC, Serial Input, Programmable Settling Time / Power Consumption, Ultra Low Power, -40 to 85 degC, 8-pin SOIC (D8), Green (RoHS & no Sb/Br); Manufacturer: Texas Instruments; PartNumber: TLV5606IDR; DAC Channels: 1; INL(Max)(+/-LSB): 1.5; Interface: Serial SPI; Power Consumption(Typ)(mW): 0.9; Resolution(Bits): 10; Settling Time(us): 3; SFDR(dB): 68; SNR(dB): 62; SubFamily: Precision DAC (=<10MSPS); DatasheetVersion: SLAS259B; PackageVersion: 4040047-3/M, 06/2011; PackageReference: D8; PackageDescription: 8-Pin Plastic Small Outline, Body 4.9 x 3.9 mm, Pitch 1.27 mm; Supplier 1: Digi-Key; Supplier Part Number 1: TLV5606IDR-ND; Supplier 2: Newark; Supplier Part Number 2: 76C8890; Supplier 3: Mouser; Supplier Part Number 3: 595-TLV5606IDR; DNL(Max)(+/-LSB): 1; Eco-Plan: Green (RoHS & no Sb/Br); Mounting Technology: Surface Mount; Code_JEDEC: MS-012; ComponentLink1Description: Manufacturer URL; ComponentLink1URL: http://www.ti.com/; ComponentLink2Description: Datasheet; ComponentLink2URL: http://www.ti.com/general/docs/lit/getliterature.tsp?genericPartNumber=TLV5606&fileType=pdf; ComponentLink3Description: Package Specification; ComponentLink3URL: http://www.ti.com/litv/pdf/msoi002j
footprint TI-D8_N (SOIC, 8-Leads, Body 4.9x3.9mm, Pitch 1.27mm, IPC Medium Density)
footprint TI-D8_L (SOIC, 8-Leads, Body 4.9x3.9mm, Pitch 1.27mm, IPC High Density)
footprint TI-D8_M (SOIC, 8-Leads, Body 4.9x3.9mm, Pitch 1.27mm, IPC Low Density)
pins: 1 DIN (in) "Serial digital data input", 2 SCLK (in) "Serial digital clock input", 3 ~{CS} (in) "Chip select. Digital input used to enable and disable inputs, active low.", 4 FS (in) "Frame sync. Digital input used for 4-wire serial interfaces such as the TMS320 DSP interface.", 5 AGND (power) "Analog ground", 6 REFIN (in) "Reference analog input voltage", 7 OUT (out) "DAC analog output", 8 VDD (power) "Positive power supply"

## TLV5606IDRG4
designator U?
10-Bit, 3 or 9 us DAC, Serial Input, Programmable Settling Time / Power Consumption, Ultra Low Power, -40 to 85 degC, 8-pin SOIC (D8), Green (RoHS & no Sb/Br); Manufacturer: Texas Instruments; PartNumber: TLV5606IDRG4; DAC Channels: 1; INL(Max)(+/-LSB): 1.5; Interface: Serial SPI; Power Consumption(Typ)(mW): 0.9; Resolution(Bits): 10; Settling Time(us): 3; SFDR(dB): 68; SNR(dB): 62; SubFamily: Precision DAC (=<10MSPS); DatasheetVersion: SLAS259B; PackageVersion: 4040047-3/M, 06/2011; PackageReference: D8; PackageDescription: 8-Pin Plastic Small Outline, Body 4.9 x 3.9 mm, Pitch 1.27 mm; Supplier 1: Digi-Key; Supplier Part Number 1: TLV5606IDRG4-ND; Supplier 2: Newark; Supplier Part Number 2: 33K7389; Supplier 3: Mouser; Supplier Part Number 3: 595-TLV5606IDRG4; DNL(Max)(+/-LSB): 1; Eco-Plan: Green (RoHS & no Sb/Br); Mounting Technology: Surface Mount; Code_JEDEC: MS-012; ComponentLink1Description: Manufacturer URL; ComponentLink1URL: http://www.ti.com/; ComponentLink2Description: Datasheet; ComponentLink2URL: http://www.ti.com/general/docs/lit/getliterature.tsp?genericPartNumber=TLV5606&fileType=pdf; ComponentLink3Description: Package Specification; ComponentLink3URL: http://www.ti.com/litv/pdf/msoi002j
footprint TI-D8_N (SOIC, 8-Leads, Body 4.9x3.9mm, Pitch 1.27mm, IPC Medium Density)
footprint TI-D8_L (SOIC, 8-Leads, Body 4.9x3.9mm, Pitch 1.27mm, IPC High Density)
footprint TI-D8_M (SOIC, 8-Leads, Body 4.9x3.9mm, Pitch 1.27mm, IPC Low Density)
pins: 1 DIN (in) "Serial digital data input", 2 SCLK (in) "Serial digital clock input", 3 ~{CS} (in) "Chip select. Digital input used to enable and disable inputs, active low.", 4 FS (in) "Frame sync. Digital input used for 4-wire serial interfaces such as the TMS320 DSP interface.", 5 AGND (power) "Analog ground", 6 REFIN (in) "Reference analog input voltage", 7 OUT (out) "DAC analog output", 8 VDD (power) "Positive power supply"

## TLV5608IDW
designator U?
2.7 to 5.5 V 10-Bit 8-Channel Serial DAC, -40 to 85 degC, 20-pin SOIC (DW20), Green (RoHS & no Sb/Br); Manufacturer: Texas Instruments; PartNumber: TLV5608IDW; DAC Channels: 8; DNL(Max)(+/-LSB): 1; INL(Max)(+/-LSB): 2; Interface: Serial SPI; Power Consumption(Typ)(mW): 18; Resolution(Bits): 10; SubFamily: Precision DAC (=<10MSPS); DatasheetVersion: SLAS268G; PackageVersion: 4040000-4/G, 01/2011; PackageReference: DW20; PackageDescription: 20-Pin Plastic Small Outline, Body 12.8 x 7.5 mm, Pitch 1.27 mm; Supplier 1: Digi-Key; Supplier Part Number 1: 296-3036-5-ND; Supplier 2: Farnell; Supplier Part Number 2: 8455597; Supplier 3: Newark; Supplier Part Number 3: 38K8475; Supplier 4: Newark; Supplier Part Number 4: 35K1248; Supplier 5: Mouser; Supplier Part Number 5: 595-TLV5608IDW; Eco-Plan: Green (RoHS & no Sb/Br); Settling Time(us): 1; Mounting Technology: Surface Mount; Code_JEDEC: MO-013; ComponentLink1Description: Manufacturer URL; ComponentLink1URL: http://www.ti.com/; ComponentLink2Description: Datasheet; ComponentLink2URL: http://www.ti.com/general/docs/lit/getliterature.tsp?genericPartNumber=TLV5608&fileType=pdf; ComponentLink3Description: Package Specification; ComponentLink3URL: http://www.ti.com/lit/ml/mpds173a/mpds173a.pdf
footprint TI-DW20_N (SOIC, 20-Leads, Body 12.8x7.5mm, Pitch 1.27mm, IPC Medium Density)
footprint TI-DW20_L (SOIC, 20-Leads, Body 12.8x7.5mm, Pitch 1.27mm, IPC High Density)
footprint TI-DW20_M (SOIC, 20-Leads, Body 12.8x7.5mm, Pitch 1.27mm, IPC Low Density)
pins: 1 DGND (power) "Digital ground", 2 DIN (in) "Digital serial data input", 3 SCLK (in) "Serial clock input", 4 FS (in) "Frame sync input", 5 ~{PRE} (in) "Preset input", 6 OUTE (out) "DAC output E", 7 OUTF (out) "DAC output F", 8 OUTG (out) "DAC output G", 9 OUTH (out) "DAC output H", 10 AGND (power) "Analog ground", 11 AVDD (power) "Analog power supply", 12 OUTA (out) "DAC output A", 13 OUTB (out) "DAC output B", 14 OUTC (out) "DAC output C", 15 OUTD (out) "DAC output D", 16 REF (in) "Voltage reference input", 17 MODE (in) "DSP/uC mode pin. High = uC mode, NC = DSP mode.", 18 ~{LDAC} (in) "Load DAC. The DAC outputs are only updated, if this signal is low. It is an LDAC asynchronous input.", 19 DOUT (out) "Digital serial data output", 20 DVDD (power) "Digital power supply"

## TLV5608IDWG4
designator U?
2.7 to 5.5 V 10-Bit 8-Channel Serial DAC, -40 to 85 degC, 20-pin SOIC (DW20), Green (RoHS & no Sb/Br); Manufacturer: Texas Instruments; PartNumber: TLV5608IDWG4; DAC Channels: 8; DNL(Max)(+/-LSB): 1; INL(Max)(+/-LSB): 2; Interface: Serial SPI; Power Consumption(Typ)(mW): 18; Resolution(Bits): 10; SubFamily: Precision DAC (=<10MSPS); DatasheetVersion: SLAS268G; PackageVersion: 4040000-4/G, 01/2011; PackageReference: DW20; PackageDescription: 20-Pin Plastic Small Outline, Body 12.8 x 7.5 mm, Pitch 1.27 mm; Supplier 1: Digi-Key; Supplier Part Number 1: TLV5608IDWG4-ND; Supplier 2: Mouser; Supplier Part Number 2: 595-TLV5608IDWG4; Eco-Plan: Green (RoHS & no Sb/Br); Settling Time(us): 1; Mounting Technology: Surface Mount; Code_JEDEC: MO-013; ComponentLink1Description: Manufacturer URL; ComponentLink1URL: http://www.ti.com/; ComponentLink2Description: Datasheet; ComponentLink2URL: http://www.ti.com/general/docs/lit/getliterature.tsp?genericPartNumber=TLV5608&fileType=pdf; ComponentLink3Description: Package Specification; ComponentLink3URL: http://www.ti.com/lit/ml/mpds173a/mpds173a.pdf
footprint TI-DW20_N (SOIC, 20-Leads, Body 12.8x7.5mm, Pitch 1.27mm, IPC Medium Density)
footprint TI-DW20_L (SOIC, 20-Leads, Body 12.8x7.5mm, Pitch 1.27mm, IPC High Density)
footprint TI-DW20_M (SOIC, 20-Leads, Body 12.8x7.5mm, Pitch 1.27mm, IPC Low Density)
pins: 1 DGND (power) "Digital ground", 2 DIN (in) "Digital serial data input", 3 SCLK (in) "Serial clock input", 4 FS (in) "Frame sync input", 5 ~{PRE} (in) "Preset input", 6 OUTE (out) "DAC output E", 7 OUTF (out) "DAC output F", 8 OUTG (out) "DAC output G", 9 OUTH (out) "DAC output H", 10 AGND (power) "Analog ground", 11 AVDD (power) "Analog power supply", 12 OUTA (out) "DAC output A", 13 OUTB (out) "DAC output B", 14 OUTC (out) "DAC output C", 15 OUTD (out) "DAC output D", 16 REF (in) "Voltage reference input", 17 MODE (in) "DSP/uC mode pin. High = uC mode, NC = DSP mode.", 18 ~{LDAC} (in) "Load DAC. The DAC outputs are only updated, if this signal is low. It is an LDAC asynchronous input.", 19 DOUT (out) "Digital serial data output", 20 DVDD (power) "Digital power supply"

## TLV5608IDWR
designator U?
2.7 to 5.5 V 10-Bit 8-Channel Serial DAC, -40 to 85 degC, 20-pin SOIC (DW20), Green (RoHS & no Sb/Br); Manufacturer: Texas Instruments; PartNumber: TLV5608IDWR; DAC Channels: 8; DNL(Max)(+/-LSB): 1; INL(Max)(+/-LSB): 2; Interface: Serial SPI; Power Consumption(Typ)(mW): 18; Resolution(Bits): 10; SubFamily: Precision DAC (=<10MSPS); DatasheetVersion: SLAS268G; PackageVersion: 4040000-4/G, 01/2011; PackageReference: DW20; PackageDescription: 20-Pin Plastic Small Outline, Body 12.8 x 7.5 mm, Pitch 1.27 mm; Supplier 1: Digi-Key; Supplier Part Number 1: TLV5608IDWR-ND; Supplier 2: Mouser; Supplier Part Number 2: 595-TLV5608IDWR; Eco-Plan: Green (RoHS & no Sb/Br); Settling Time(us): 1; Mounting Technology: Surface Mount; Code_JEDEC: MO-013; ComponentLink1Description: Manufacturer URL; ComponentLink1URL: http://www.ti.com/; ComponentLink2Description: Datasheet; ComponentLink2URL: http://www.ti.com/general/docs/lit/getliterature.tsp?genericPartNumber=TLV5608&fileType=pdf; ComponentLink3Description: Package Specification; ComponentLink3URL: http://www.ti.com/lit/ml/mpds173a/mpds173a.pdf
footprint TI-DW20_N (SOIC, 20-Leads, Body 12.8x7.5mm, Pitch 1.27mm, IPC Medium Density)
footprint TI-DW20_L (SOIC, 20-Leads, Body 12.8x7.5mm, Pitch 1.27mm, IPC High Density)
footprint TI-DW20_M (SOIC, 20-Leads, Body 12.8x7.5mm, Pitch 1.27mm, IPC Low Density)
pins: 1 DGND (power) "Digital ground", 2 DIN (in) "Digital serial data input", 3 SCLK (in) "Serial clock input", 4 FS (in) "Frame sync input", 5 ~{PRE} (in) "Preset input", 6 OUTE (out) "DAC output E", 7 OUTF (out) "DAC output F", 8 OUTG (out) "DAC output G", 9 OUTH (out) "DAC output H", 10 AGND (power) "Analog ground", 11 AVDD (power) "Analog power supply", 12 OUTA (out) "DAC output A", 13 OUTB (out) "DAC output B", 14 OUTC (out) "DAC output C", 15 OUTD (out) "DAC output D", 16 REF (in) "Voltage reference input", 17 MODE (in) "DSP/uC mode pin. High = uC mode, NC = DSP mode.", 18 ~{LDAC} (in) "Load DAC. The DAC outputs are only updated, if this signal is low. It is an LDAC asynchronous input.", 19 DOUT (out) "Digital serial data output", 20 DVDD (power) "Digital power supply"

## TLV5608IDWRG4
designator U?
2.7 to 5.5 V 10-Bit 8-Channel Serial DAC, -40 to 85 degC, 20-pin SOIC (DW20), Green (RoHS & no Sb/Br); Manufacturer: Texas Instruments; PartNumber: TLV5608IDWRG4; DAC Channels: 8; DNL(Max)(+/-LSB): 1; INL(Max)(+/-LSB): 2; Interface: Serial SPI; Power Consumption(Typ)(mW): 18; Resolution(Bits): 10; SubFamily: Precision DAC (=<10MSPS); DatasheetVersion: SLAS268G; PackageVersion: 4040000-4/G, 01/2011; PackageReference: DW20; PackageDescription: 20-Pin Plastic Small Outline, Body 12.8 x 7.5 mm, Pitch 1.27 mm; Supplier 1: Digi-Key; Supplier Part Number 1: TLV5608IDWRG4-ND; Supplier 2: Mouser; Supplier Part Number 2: 595-TLV5608IDWRG4; Eco-Plan: Green (RoHS & no Sb/Br); Settling Time(us): 1; Mounting Technology: Surface Mount; Code_JEDEC: MO-013; ComponentLink1Description: Manufacturer URL; ComponentLink1URL: http://www.ti.com/; ComponentLink2Description: Datasheet; ComponentLink2URL: http://www.ti.com/general/docs/lit/getliterature.tsp?genericPartNumber=TLV5608&fileType=pdf; ComponentLink3Description: Package Specification; ComponentLink3URL: http://www.ti.com/lit/ml/mpds173a/mpds173a.pdf
footprint TI-DW20_N (SOIC, 20-Leads, Body 12.8x7.5mm, Pitch 1.27mm, IPC Medium Density)
footprint TI-DW20_L (SOIC, 20-Leads, Body 12.8x7.5mm, Pitch 1.27mm, IPC High Density)
footprint TI-DW20_M (SOIC, 20-Leads, Body 12.8x7.5mm, Pitch 1.27mm, IPC Low Density)
pins: 1 DGND (power) "Digital ground", 2 DIN (in) "Digital serial data input", 3 SCLK (in) "Serial clock input", 4 FS (in) "Frame sync input", 5 ~{PRE} (in) "Preset input", 6 OUTE (out) "DAC output E", 7 OUTF (out) "DAC output F", 8 OUTG (out) "DAC output G", 9 OUTH (out) "DAC output H", 10 AGND (power) "Analog ground", 11 AVDD (power) "Analog power supply", 12 OUTA (out) "DAC output A", 13 OUTB (out) "DAC output B", 14 OUTC (out) "DAC output C", 15 OUTD (out) "DAC output D", 16 REF (in) "Voltage reference input", 17 MODE (in) "DSP/uC mode pin. High = uC mode, NC = DSP mode.", 18 ~{LDAC} (in) "Load DAC. The DAC outputs are only updated, if this signal is low. It is an LDAC asynchronous input.", 19 DOUT (out) "Digital serial data output", 20 DVDD (power) "Digital power supply"

## TLV5608IPW
designator U?
2.7 to 5.5 V 10-Bit 8-Channel Serial DAC, -40 to 85 degC, 20-pin SOP (PW20), Green (RoHS & no Sb/Br); Manufacturer: Texas Instruments; PartNumber: TLV5608IPW; DAC Channels: 8; DNL(Max)(+/-LSB): 1; INL(Max)(+/-LSB): 2; Interface: Serial SPI; Power Consumption(Typ)(mW): 18; Resolution(Bits): 10; SubFamily: Precision DAC (=<10MSPS); DatasheetVersion: SLAS268G; PackageVersion: 4040064-5/G, 02/2011; PackageReference: PW20; PackageDescription: 20-Pin Plastic Small Outline, Body 6.5 x 4.4 mm, Pitch 0.65 mm; Supplier 1: Digi-Key; Supplier Part Number 1: 296-3037-5-ND; Supplier 2: Newark; Supplier Part Number 2: 27C4854; Supplier 3: Mouser; Supplier Part Number 3: 595-TLV5608IPW; Eco-Plan: Green (RoHS & no Sb/Br); Settling Time(us): 1; Mounting Technology: Surface Mount; Code_JEDEC: MO-153; ComponentLink1Description: Manufacturer URL; ComponentLink1URL: http://www.ti.com/; ComponentLink2Description: Datasheet; ComponentLink2URL: http://www.ti.com/general/docs/lit/getliterature.tsp?genericPartNumber=TLV5608&fileType=pdf; ComponentLink3Description: Package Specification; ComponentLink3URL: http://www.ti.com.cn/cn/lit/ml/mpds362/mpds362.pdf
footprint TI-PW20_N (SOP, 20-Leads, Body 6.5x4.4mm, Pitch 0.65mm, IPC Medium Density)
footprint TI-PW20_L (SOP, 20-Leads, Body 6.5x4.4mm, Pitch 0.65mm, IPC High Density)
footprint TI-PW20_M (SOP, 20-Leads, Body 6.5x4.4mm, Pitch 0.65mm, IPC Low Density)
pins: 1 DGND (power) "Digital ground", 2 DIN (in) "Digital serial data input", 3 SCLK (in) "Serial clock input", 4 FS (in) "Frame sync input", 5 ~{PRE} (in) "Preset input", 6 OUTE (out) "DAC output E", 7 OUTF (out) "DAC output F", 8 OUTG (out) "DAC output G", 9 OUTH (out) "DAC output H", 10 AGND (power) "Analog ground", 11 AVDD (power) "Analog power supply", 12 OUTA (out) "DAC output A", 13 OUTB (out) "DAC output B", 14 OUTC (out) "DAC output C", 15 OUTD (out) "DAC output D", 16 REF (in) "Voltage reference input", 17 MODE (in) "DSP/uC mode pin. High = uC mode, NC = DSP mode.", 18 ~{LDAC} (in) "Load DAC. The DAC outputs are only updated, if this signal is low. It is an LDAC asynchronous input.", 19 DOUT (out) "Digital serial data output", 20 DVDD (power) "Digital power supply"

## TLV5608IPWG4
designator U?
2.7 to 5.5 V 10-Bit 8-Channel Serial DAC, -40 to 85 degC, 20-pin SOP (PW20), Green (RoHS & no Sb/Br); Manufacturer: Texas Instruments; PartNumber: TLV5608IPWG4; DAC Channels: 8; DNL(Max)(+/-LSB): 1; INL(Max)(+/-LSB): 2; Interface: Serial SPI; Power Consumption(Typ)(mW): 18; Resolution(Bits): 10; SubFamily: Precision DAC (=<10MSPS); DatasheetVersion: SLAS268G; PackageVersion: 4040064-5/G, 02/2011; PackageReference: PW20; PackageDescription: 20-Pin Plastic Small Outline, Body 6.5 x 4.4 mm, Pitch 0.65 mm; Supplier 1: Digi-Key; Supplier Part Number 1: TLV5608IPWG4-ND; Supplier 2: Mouser; Supplier Part Number 2: 595-TLV5608IPWG4; Eco-Plan: Green (RoHS & no Sb/Br); Settling Time(us): 1; Mounting Technology: Surface Mount; Code_JEDEC: MO-153; ComponentLink1Description: Manufacturer URL; ComponentLink1URL: http://www.ti.com/; ComponentLink2Description: Datasheet; ComponentLink2URL: http://www.ti.com/general/docs/lit/getliterature.tsp?genericPartNumber=TLV5608&fileType=pdf; ComponentLink3Description: Package Specification; ComponentLink3URL: http://www.ti.com.cn/cn/lit/ml/mpds362/mpds362.pdf
footprint TI-PW20_N (SOP, 20-Leads, Body 6.5x4.4mm, Pitch 0.65mm, IPC Medium Density)
footprint TI-PW20_L (SOP, 20-Leads, Body 6.5x4.4mm, Pitch 0.65mm, IPC High Density)
footprint TI-PW20_M (SOP, 20-Leads, Body 6.5x4.4mm, Pitch 0.65mm, IPC Low Density)
pins: 1 DGND (power) "Digital ground", 2 DIN (in) "Digital serial data input", 3 SCLK (in) "Serial clock input", 4 FS (in) "Frame sync input", 5 ~{PRE} (in) "Preset input", 6 OUTE (out) "DAC output E", 7 OUTF (out) "DAC output F", 8 OUTG (out) "DAC output G", 9 OUTH (out) "DAC output H", 10 AGND (power) "Analog ground", 11 AVDD (power) "Analog power supply", 12 OUTA (out) "DAC output A", 13 OUTB (out) "DAC output B", 14 OUTC (out) "DAC output C", 15 OUTD (out) "DAC output D", 16 REF (in) "Voltage reference input", 17 MODE (in) "DSP/uC mode pin. High = uC mode, NC = DSP mode.", 18 ~{LDAC} (in) "Load DAC. The DAC outputs are only updated, if this signal is low. It is an LDAC asynchronous input.", 19 DOUT (out) "Digital serial data output", 20 DVDD (power) "Digital power supply"